# Altium integrated library TI Amplifiers and Linear Special Function Amplifier.IntLib: 708 symbols (part 25 of 47)
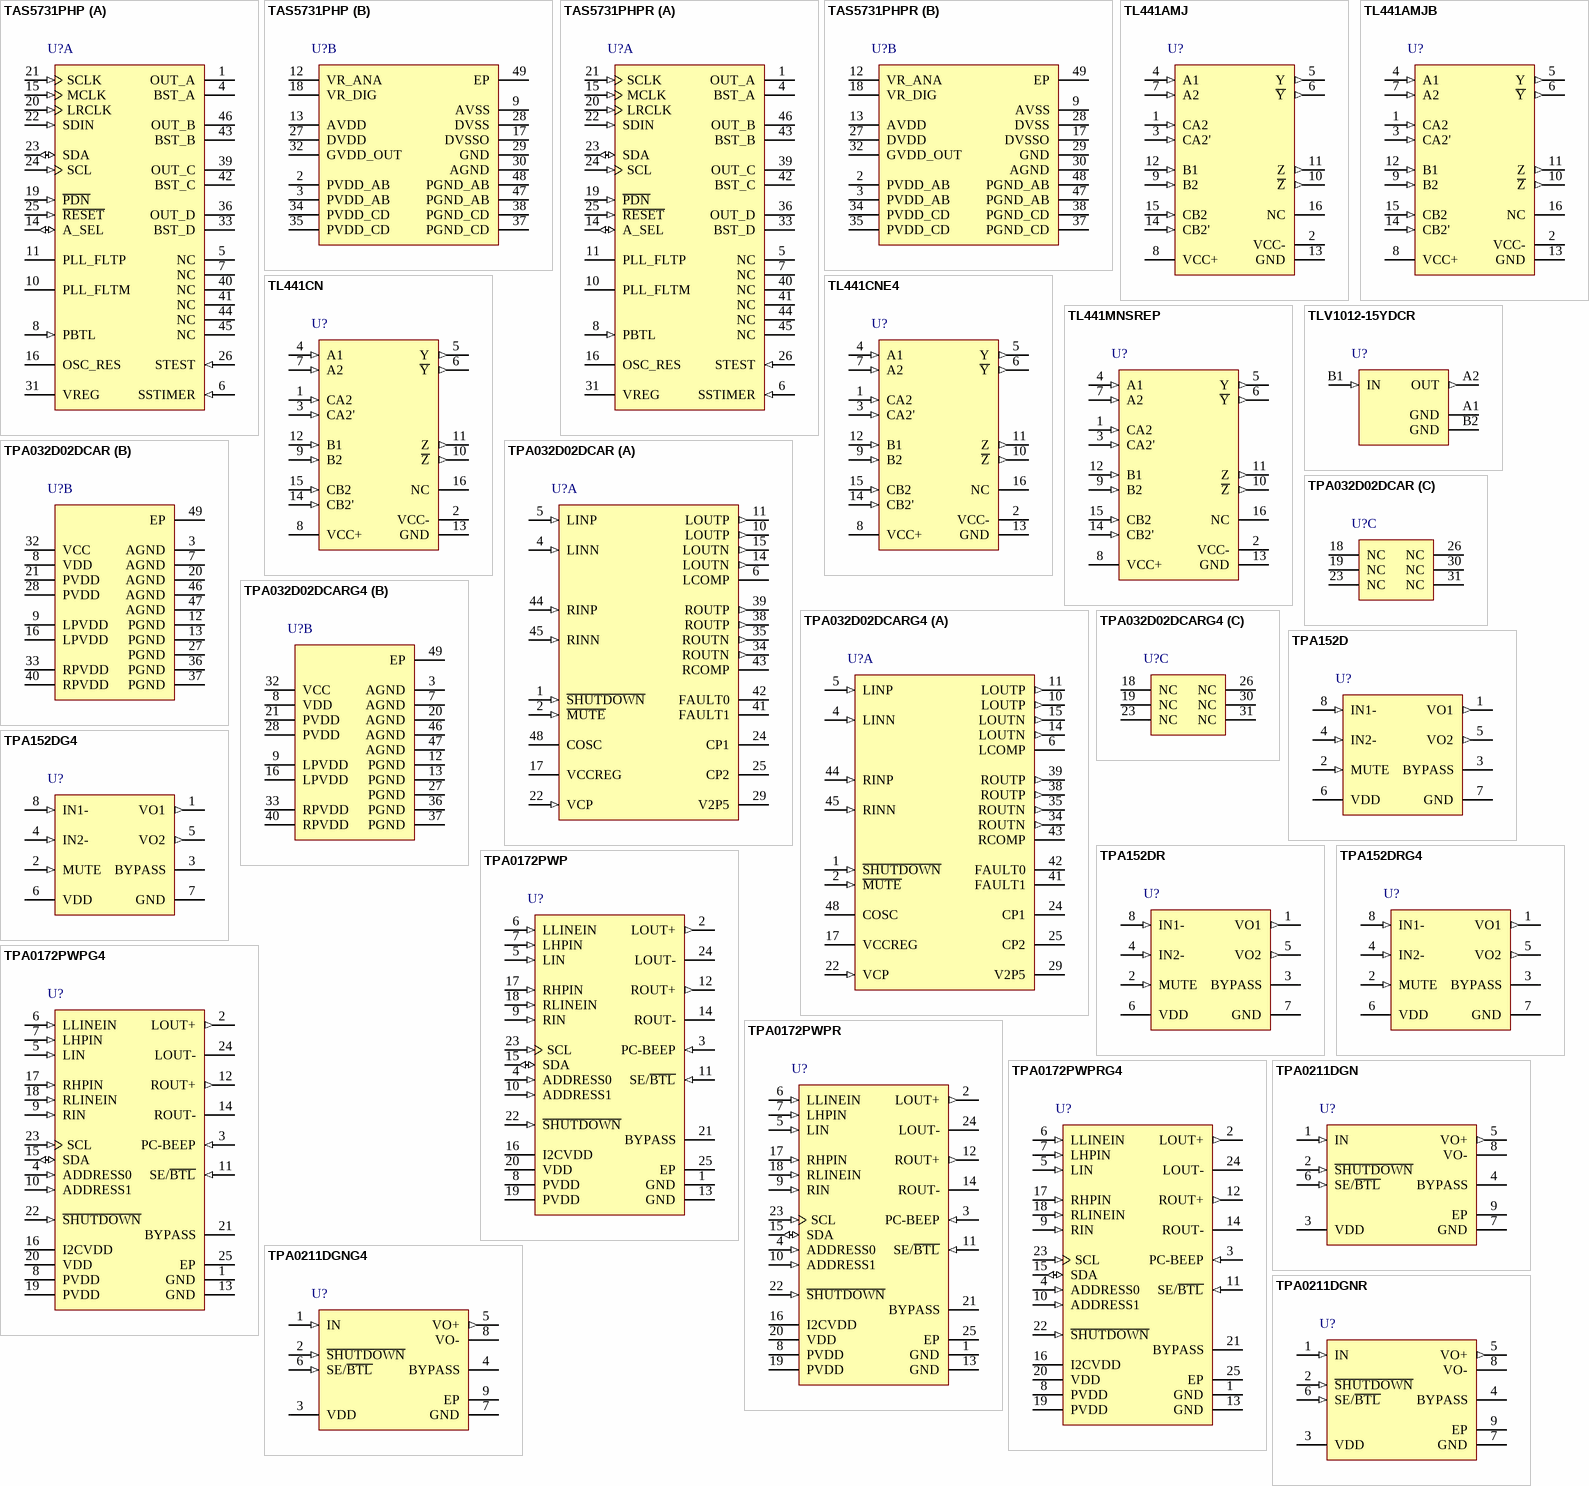
[diagram p63: symbols TAS5731PHP to TPA0211DGNR]

## TPA152DG4
designator U?
Hi-Fi, Stereo Headphone Audio Amplifier, -40 to 85 degC, 8-pin SOIC (D8), Green (RoHS & no Sb/Br); Manufacturer: Texas Instruments; PartNumber: TPA152DG4; Load(Min)(ohms): 32; Output Power(W): 0.075; PSRR(dB): 65; SubFamily: Headphone Amplifier; Supply Max(Max)(Volt): 5.5; Supply Min(Min)(Volt): 4.5; THD(%): 0.2; DatasheetVersion: SLOS210A; PackageVersion: 4040047-3/M, 06/2011; PackageReference: D8; PackageDescription: 8-Pin Plastic Small Outline, Body 4.9 x 3.9 mm, Pitch 1.27 mm; Supplier 1: Digi-Key; Supplier Part Number 1: TPA152DG4-ND; Supplier 2: Mouser; Supplier Part Number 2: 595-TPA152DG4; Eco-Plan: Green (RoHS & no Sb/Br); Headphone Channels: Stereo; Mounting Technology: Surface Mount; Code_JEDEC: MS-012; ComponentLink1Description: Manufacturer URL; ComponentLink1URL: http://www.ti.com/; ComponentLink2Description: Datasheet; ComponentLink2URL: http://www.ti.com/general/docs/lit/getliterature.tsp?genericPartNumber=TPA152&fileType=pdf; ComponentLink3Description: Package Specification; ComponentLink3URL: http://www.ti.com/litv/pdf/msoi002j
footprint TI-D8_N (SOIC, 8-Leads, Body 5x4mm, Pitch 1.27mm, IPC Medium Density)
footprint TI-D8_L (SOIC, 8-Leads, Body 5x4mm, Pitch 1.27mm, IPC High Density)
footprint TI-D8_M (SOIC, 8-Leads, Body 5x4mm, Pitch 1.27mm, IPC Low Density)
pins: 1 VO1 (out) "VO1 is the audio output for channel 1.", 2 MUTE (in) "A logic high puts the device into MUTE mode.", 3 BYPASS "BYPASS is the tap to the voltage divider for internal mid-supply bias. This terminal should be connected to a 0.1-uf to 1-uF capacitor.", 4 IN2- (in) "IN2- is the inverting input for channel 2.", 5 VO2 (out) "VO2 is the audio output for channel 1.", 6 VDD (power) "VDD is the supply voltage terminal.", 7 GND (power) "GND is the ground connection.", 8 IN1- (in) "IN1- is the inverting input for channel 1."

## TPA152DR
designator U?
Hi-Fi, Stereo Headphone Audio Amplifier, -40 to 85 degC, 8-pin SOIC (D8), Green (RoHS & no Sb/Br); Manufacturer: Texas Instruments; PartNumber: TPA152DR; Load(Min)(ohms): 32; Output Power(W): 0.075; PSRR(dB): 65; SubFamily: Headphone Amplifier; Supply Max(Max)(Volt): 5.5; Supply Min(Min)(Volt): 4.5; THD(%): 0.2; DatasheetVersion: SLOS210A; PackageVersion: 4040047-3/M, 06/2011; PackageReference: D8; PackageDescription: 8-Pin Plastic Small Outline, Body 4.9 x 3.9 mm, Pitch 1.27 mm; Supplier 1: Digi-Key; Supplier Part Number 1: 296-1944-2-ND; Supplier 2: Digi-Key; Supplier Part Number 2: 296-1944-1-ND; Supplier 3: Digi-Key; Supplier Part Number 3: 296-1944-6-ND; Supplier 4: Newark; Supplier Part Number 4: 76C9776; Supplier 5: Mouser; Supplier Part Number 5: 595-TPA152DR; Eco-Plan: Green (RoHS & no Sb/Br); Headphone Channels: Stereo; Mounting Technology: Surface Mount; Code_JEDEC: MS-012; ComponentLink1Description: Manufacturer URL; ComponentLink1URL: http://www.ti.com/; ComponentLink2Description: Datasheet; ComponentLink2URL: http://www.ti.com/general/docs/lit/getliterature.tsp?genericPartNumber=TPA152&fileType=pdf; ComponentLink3Description: Package Specification; ComponentLink3URL: http://www.ti.com/litv/pdf/msoi002j
footprint TI-D8_N (SOIC, 8-Leads, Body 5x4mm, Pitch 1.27mm, IPC Medium Density)
footprint TI-D8_L (SOIC, 8-Leads, Body 5x4mm, Pitch 1.27mm, IPC High Density)
footprint TI-D8_M (SOIC, 8-Leads, Body 5x4mm, Pitch 1.27mm, IPC Low Density)
pins: 1 VO1 (out) "VO1 is the audio output for channel 1.", 2 MUTE (in) "A logic high puts the device into MUTE mode.", 3 BYPASS "BYPASS is the tap to the voltage divider for internal mid-supply bias. This terminal should be connected to a 0.1-uf to 1-uF capacitor.", 4 IN2- (in) "IN2- is the inverting input for channel 2.", 5 VO2 (out) "VO2 is the audio output for channel 1.", 6 VDD (power) "VDD is the supply voltage terminal.", 7 GND (power) "GND is the ground connection.", 8 IN1- (in) "IN1- is the inverting input for channel 1."

## TPA152DRG4
designator U?
Hi-Fi, Stereo Headphone Audio Amplifier, -40 to 85 degC, 8-pin SOIC (D8), Green (RoHS & no Sb/Br); Manufacturer: Texas Instruments; PartNumber: TPA152DRG4; Load(Min)(ohms): 32; Output Power(W): 0.075; PSRR(dB): 65; SubFamily: Headphone Amplifier; Supply Max(Max)(Volt): 5.5; Supply Min(Min)(Volt): 4.5; THD(%): 0.2; DatasheetVersion: SLOS210A; PackageVersion: 4040047-3/M, 06/2011; PackageReference: D8; PackageDescription: 8-Pin Plastic Small Outline, Body 4.9 x 3.9 mm, Pitch 1.27 mm; Supplier 1: Digi-Key; Supplier Part Number 1: TPA152DRG4-ND; Supplier 2: Mouser; Supplier Part Number 2: 595-TPA152DRG4; Eco-Plan: Green (RoHS & no Sb/Br); Headphone Channels: Stereo; Mounting Technology: Surface Mount; Code_JEDEC: MS-012; ComponentLink1Description: Manufacturer URL; ComponentLink1URL: http://www.ti.com/; ComponentLink2Description: Datasheet; ComponentLink2URL: http://www.ti.com/general/docs/lit/getliterature.tsp?genericPartNumber=TPA152&fileType=pdf; ComponentLink3Description: Package Specification; ComponentLink3URL: http://www.ti.com/litv/pdf/msoi002j
footprint TI-D8_N (SOIC, 8-Leads, Body 5x4mm, Pitch 1.27mm, IPC Medium Density)
footprint TI-D8_L (SOIC, 8-Leads, Body 5x4mm, Pitch 1.27mm, IPC High Density)
footprint TI-D8_M (SOIC, 8-Leads, Body 5x4mm, Pitch 1.27mm, IPC Low Density)
pins: 1 VO1 (out) "VO1 is the audio output for channel 1.", 2 MUTE (in) "A logic high puts the device into MUTE mode.", 3 BYPASS "BYPASS is the tap to the voltage divider for internal mid-supply bias. This terminal should be connected to a 0.1-uf to 1-uF capacitor.", 4 IN2- (in) "IN2- is the inverting input for channel 2.", 5 VO2 (out) "VO2 is the audio output for channel 1.", 6 VDD (power) "VDD is the supply voltage terminal.", 7 GND (power) "GND is the ground connection.", 8 IN1- (in) "IN1- is the inverting input for channel 1."

## TPA0172PWP
designator U?
Stereo Class-AB Audio Amplifier with Stereo Headphone Drive and I2C Control, -40 to 85 degC, 24-pin SOP (PWP24), Green (RoHS & no Sb/Br); Manufacturer: Texas Instruments; PartNumber: TPA0172PWP; Output Power(W): 2; PSRR(dB): 75; SubFamily: Dynamic Speaker; Supply Max(Max)(Volt): 5.5; Supply Min(Min)(Volt): 4.5; DatasheetVersion: SLOS327C; PackageVersion: 4073225-5/I, 05/2011; PackageReference: PWP24-4420X1950TP; PackageDescription: 24-Pin Plastic Small Outline, Body 4.4 x 7.8 mm, Pitch 0.65 mm; Supplier 1: Digi-Key; Supplier Part Number 1: 296-7000-5-ND; Supplier 2: Mouser; Supplier Part Number 2: 595-TPA0172PWP; Eco-Plan: Green (RoHS & no Sb/Br); Headphone Channels: Stereo; Speaker Amp Type: Class-AB; Speaker Channels: Stereo; Mounting Technology: Surface Mount; Code_JEDEC: MO-153; ComponentLink1Description: Manufacturer URL; ComponentLink1URL: http://www.ti.com/; ComponentLink2Description: Datasheet; ComponentLink2URL: http://www.ti.com/general/docs/lit/getliterature.tsp?genericPartNumber=TPA0172&fileType=pdf; ComponentLink3Description: Package Specification; ComponentLink3URL: http://www.ti.com/lit/ds/symlink/tps65101.pdf
footprint TI-PWP24-4420X1950TP_N (SOP, 24-Leads, Body 7.9x4.5mm, Pitch 0.65mm, Thermal Pad 4.87x2.4mm, IPC Medium Density)
footprint TI-PWP24-4420X1950TP_L (SOP, 24-Leads, Body 7.9x4.5mm, Pitch 0.65mm, Thermal Pad 4.87x2.4mm, IPC High Density)
footprint TI-PWP24-4420X1950TP_M (SOP, 24-Leads, Body 7.9x4.5mm, Pitch 0.65mm, Thermal Pad 4.87x2.4mm, IPC Low Density)
pins: 1 GND (power) "Ground connection for circuitry. Connect to thermal pad", 2 LOUT+ (out) "Left-channel positive output in BTL mode, and positive output in SE mode.", 3 PC-BEEP (in) "The input for PC-BEEP mode which is enabled when a > 1-V (peak-to-peak) square wave is input to this terminal, when PCB ENABLE is held high, or programmed via I2C. If not used, ground this terminal.", 4 ADDRESS0 (in) "Bit 0 of user-setable portion of device’s I2C address.", 5 LIN (in) "Common left input for fully differential input. AC ground for single-ended inputs.", 6 LLINEIN (in) "Left-channel line input, selected when SE/B\T\L\ is held low, or programmed via I2C.", 7 LHPIN (in) "Left-channel headphone input, selected when SE/B\T\L\ is held high, or programmed via I2C.", 8 PVDD (power) "Power supply", 9 RIN (in) "Common right input for fully differential input. AC ground for single-ended inputs.", 10 ADDRESS1 (in) "Bit 1 of user-setable portion of device’s I2C address.", 11 SE/~{BTL} (in) "Input MUX control input. When this terminal is held high, the LHPIN or RHPIN, and the SE output are selected. When this terminal is held low, the LLINEIN or RLINEIN, and the B\T\L\ output are selected. This functionality can (See Datasheet)", 12 ROUT+ (out) "Right-channel positive output in BTL mode, and positive output in SE mode.", 13 GND (power) "Ground connection for circuitry. Connect to thermal pad", 14 ROUT- (hiz) "Right-channel negative output in BTL mode, and high impedance in SE mode.", 15 SDA (io) "Serial data line of the I2C bus. Pullup resistor must comply with the I2C standard: minimum value = 3 kohm, maximum value = 19 kohm. Pull up to I2CVDD", 16 I2CVDD (power) "The voltage on this terminal sets the trip points for the I2C interface. If the system I2C bus is running at 3.3 V, then tie this terminal to 3.3 V. If the system I2C bus is running at 5 V, then tie this terminal to 5 V.", 17 RHPIN (in) "Right-channel headphone input, selected when SE/B\T\L\ is held high, or programmed via I2C.", 18 RLINEIN (in) "Right-channel line input, selected when SE/B\T\L\ is held low, or programmed via I2C.", 19 PVDD (power) "Power supply", 20 VDD (power) "Power supply", 21 BYPASS "Tap to voltage divider for internal midsupply bias generator.", 22 ~{SHUTDOWN} (in) "When held low, this terminal places the device in the shutdown mode, except for the PC-BEEP input and the I2C bus.", 23 SCL (in) "I2C clock line", 24 LOUT- (hiz) "Left-channel negative output in BTL mode, and high impedance in SE mode.", 25 EP (power)

## TPA0172PWPG4
designator U?
Stereo Class-AB Audio Amplifier with Stereo Headphone Drive and I2C Control, -40 to 85 degC, 24-pin SOP (PWP24), Green (RoHS & no Sb/Br); Manufacturer: Texas Instruments; PartNumber: TPA0172PWPG4; Output Power(W): 2; PSRR(dB): 75; SubFamily: Dynamic Speaker; Supply Max(Max)(Volt): 5.5; Supply Min(Min)(Volt): 4.5; DatasheetVersion: SLOS327C; PackageVersion: 4073225-5/I, 05/2011; PackageReference: PWP24-4420X1950TP; PackageDescription: 24-Pin Plastic Small Outline, Body 4.4 x 7.8 mm, Pitch 0.65 mm; Supplier 1: Digi-Key; Supplier Part Number 1: TPA0172PWPG4-ND; Supplier 2: Farnell; Supplier Part Number 2: 1207307; Supplier 3: Newark; Supplier Part Number 3: 62M0660; Supplier 4: Mouser; Supplier Part Number 4: 595-TPA0172PWPG4; Eco-Plan: Green (RoHS & no Sb/Br); Headphone Channels: Stereo; Speaker Amp Type: Class-AB; Speaker Channels: Stereo; Mounting Technology: Surface Mount; Code_JEDEC: MO-153; ComponentLink1Description: Manufacturer URL; ComponentLink1URL: http://www.ti.com/; ComponentLink2Description: Datasheet; ComponentLink2URL: http://www.ti.com/general/docs/lit/getliterature.tsp?genericPartNumber=TPA0172&fileType=pdf; ComponentLink3Description: Package Specification; ComponentLink3URL: http://www.ti.com/lit/ds/symlink/tps65101.pdf
footprint TI-PWP24-4420X1950TP_N (SOP, 24-Leads, Body 7.9x4.5mm, Pitch 0.65mm, Thermal Pad 4.87x2.4mm, IPC Medium Density)
footprint TI-PWP24-4420X1950TP_L (SOP, 24-Leads, Body 7.9x4.5mm, Pitch 0.65mm, Thermal Pad 4.87x2.4mm, IPC High Density)
footprint TI-PWP24-4420X1950TP_M (SOP, 24-Leads, Body 7.9x4.5mm, Pitch 0.65mm, Thermal Pad 4.87x2.4mm, IPC Low Density)
pins: 1 GND (power) "Ground connection for circuitry. Connect to thermal pad", 2 LOUT+ (out) "Left-channel positive output in BTL mode, and positive output in SE mode.", 3 PC-BEEP (in) "The input for PC-BEEP mode which is enabled when a > 1-V (peak-to-peak) square wave is input to this terminal, when PCB ENABLE is held high, or programmed via I2C. If not used, ground this terminal.", 4 ADDRESS0 (in) "Bit 0 of user-setable portion of device’s I2C address.", 5 LIN (in) "Common left input for fully differential input. AC ground for single-ended inputs.", 6 LLINEIN (in) "Left-channel line input, selected when SE/B\T\L\ is held low, or programmed via I2C.", 7 LHPIN (in) "Left-channel headphone input, selected when SE/B\T\L\ is held high, or programmed via I2C.", 8 PVDD (power) "Power supply", 9 RIN (in) "Common right input for fully differential input. AC ground for single-ended inputs.", 10 ADDRESS1 (in) "Bit 1 of user-setable portion of device’s I2C address.", 11 SE/~{BTL} (in) "Input MUX control input. When this terminal is held high, the LHPIN or RHPIN, and the SE output are selected. When this terminal is held low, the LLINEIN or RLINEIN, and the B\T\L\ output are selected. This functionality can (See Datasheet)", 12 ROUT+ (out) "Right-channel positive output in BTL mode, and positive output in SE mode.", 13 GND (power) "Ground connection for circuitry. Connect to thermal pad", 14 ROUT- (hiz) "Right-channel negative output in BTL mode, and high impedance in SE mode.", 15 SDA (io) "Serial data line of the I2C bus. Pullup resistor must comply with the I2C standard: minimum value = 3 kohm, maximum value = 19 kohm. Pull up to I2CVDD", 16 I2CVDD (power) "The voltage on this terminal sets the trip points for the I2C interface. If the system I2C bus is running at 3.3 V, then tie this terminal to 3.3 V. If the system I2C bus is running at 5 V, then tie this terminal to 5 V.", 17 RHPIN (in) "Right-channel headphone input, selected when SE/B\T\L\ is held high, or programmed via I2C.", 18 RLINEIN (in) "Right-channel line input, selected when SE/B\T\L\ is held low, or programmed via I2C.", 19 PVDD (power) "Power supply", 20 VDD (power) "Power supply", 21 BYPASS "Tap to voltage divider for internal midsupply bias generator.", 22 ~{SHUTDOWN} (in) "When held low, this terminal places the device in the shutdown mode, except for the PC-BEEP input and the I2C bus.", 23 SCL (in) "I2C clock line", 24 LOUT- (hiz) "Left-channel negative output in BTL mode, and high impedance in SE mode.", 25 EP (power)

## TPA0172PWPR
designator U?
Stereo Class-AB Audio Amplifier with Stereo Headphone Drive and I2C Control, -40 to 85 degC, 24-pin SOP (PWP24), Green (RoHS & no Sb/Br); Manufacturer: Texas Instruments; PartNumber: TPA0172PWPR; Output Power(W): 2; PSRR(dB): 75; SubFamily: Dynamic Speaker; Supply Max(Max)(Volt): 5.5; Supply Min(Min)(Volt): 4.5; DatasheetVersion: SLOS327C; PackageVersion: 4073225-5/I, 05/2011; PackageReference: PWP24-4420X1950TP; PackageDescription: 24-Pin Plastic Small Outline, Body 4.4 x 7.8 mm, Pitch 0.65 mm; Supplier 1: Digi-Key; Supplier Part Number 1: TPA0172PWPR-ND; Supplier 2: Mouser; Supplier Part Number 2: 595-TPA0172PWPR; Eco-Plan: Green (RoHS & no Sb/Br); Headphone Channels: Stereo; Speaker Amp Type: Class-AB; Speaker Channels: Stereo; Mounting Technology: Surface Mount; Code_JEDEC: MO-153; ComponentLink1Description: Manufacturer URL; ComponentLink1URL: http://www.ti.com/; ComponentLink2Description: Datasheet; ComponentLink2URL: http://www.ti.com/general/docs/lit/getliterature.tsp?genericPartNumber=TPA0172&fileType=pdf; ComponentLink3Description: Package Specification; ComponentLink3URL: http://www.ti.com/lit/ds/symlink/tps65101.pdf
footprint TI-PWP24-4420X1950TP_N (SOP, 24-Leads, Body 7.9x4.5mm, Pitch 0.65mm, Thermal Pad 4.87x2.4mm, IPC Medium Density)
footprint TI-PWP24-4420X1950TP_L (SOP, 24-Leads, Body 7.9x4.5mm, Pitch 0.65mm, Thermal Pad 4.87x2.4mm, IPC High Density)
footprint TI-PWP24-4420X1950TP_M (SOP, 24-Leads, Body 7.9x4.5mm, Pitch 0.65mm, Thermal Pad 4.87x2.4mm, IPC Low Density)
pins: 1 GND (power) "Ground connection for circuitry. Connect to thermal pad", 2 LOUT+ (out) "Left-channel positive output in BTL mode, and positive output in SE mode.", 3 PC-BEEP (in) "The input for PC-BEEP mode which is enabled when a > 1-V (peak-to-peak) square wave is input to this terminal, when PCB ENABLE is held high, or programmed via I2C. If not used, ground this terminal.", 4 ADDRESS0 (in) "Bit 0 of user-setable portion of device’s I2C address.", 5 LIN (in) "Common left input for fully differential input. AC ground for single-ended inputs.", 6 LLINEIN (in) "Left-channel line input, selected when SE/B\T\L\ is held low, or programmed via I2C.", 7 LHPIN (in) "Left-channel headphone input, selected when SE/B\T\L\ is held high, or programmed via I2C.", 8 PVDD (power) "Power supply", 9 RIN (in) "Common right input for fully differential input. AC ground for single-ended inputs.", 10 ADDRESS1 (in) "Bit 1 of user-setable portion of device’s I2C address.", 11 SE/~{BTL} (in) "Input MUX control input. When this terminal is held high, the LHPIN or RHPIN, and the SE output are selected. When this terminal is held low, the LLINEIN or RLINEIN, and the B\T\L\ output are selected. This functionality can (See Datasheet)", 12 ROUT+ (out) "Right-channel positive output in BTL mode, and positive output in SE mode.", 13 GND (power) "Ground connection for circuitry. Connect to thermal pad", 14 ROUT- (hiz) "Right-channel negative output in BTL mode, and high impedance in SE mode.", 15 SDA (io) "Serial data line of the I2C bus. Pullup resistor must comply with the I2C standard: minimum value = 3 kohm, maximum value = 19 kohm. Pull up to I2CVDD", 16 I2CVDD (power) "The voltage on this terminal sets the trip points for the I2C interface. If the system I2C bus is running at 3.3 V, then tie this terminal to 3.3 V. If the system I2C bus is running at 5 V, then tie this terminal to 5 V.", 17 RHPIN (in) "Right-channel headphone input, selected when SE/B\T\L\ is held high, or programmed via I2C.", 18 RLINEIN (in) "Right-channel line input, selected when SE/B\T\L\ is held low, or programmed via I2C.", 19 PVDD (power) "Power supply", 20 VDD (power) "Power supply", 21 BYPASS "Tap to voltage divider for internal midsupply bias generator.", 22 ~{SHUTDOWN} (in) "When held low, this terminal places the device in the shutdown mode, except for the PC-BEEP input and the I2C bus.", 23 SCL (in) "I2C clock line", 24 LOUT- (hiz) "Left-channel negative output in BTL mode, and high impedance in SE mode.", 25 EP (power)

## TPA0172PWPRG4
designator U?
Stereo Class-AB Audio Amplifier with Stereo Headphone Drive and I2C Control, -40 to 85 degC, 24-pin SOP (PWP24), Green (RoHS & no Sb/Br); Manufacturer: Texas Instruments; PartNumber: TPA0172PWPRG4; Output Power(W): 2; PSRR(dB): 75; SubFamily: Dynamic Speaker; Supply Max(Max)(Volt): 5.5; Supply Min(Min)(Volt): 4.5; DatasheetVersion: SLOS327C; PackageVersion: 4073225-5/I, 05/2011; PackageReference: PWP24-4420X1950TP; PackageDescription: 24-Pin Plastic Small Outline, Body 4.4 x 7.8 mm, Pitch 0.65 mm; Supplier 1: Digi-Key; Supplier Part Number 1: TPA0172PWPRG4-ND; Supplier 2: Mouser; Supplier Part Number 2: 595-TPA0172PWPRG4; Eco-Plan: Green (RoHS & no Sb/Br); Headphone Channels: Stereo; Speaker Amp Type: Class-AB; Speaker Channels: Stereo; Mounting Technology: Surface Mount; Code_JEDEC: MO-153; ComponentLink1Description: Manufacturer URL; ComponentLink1URL: http://www.ti.com/; ComponentLink2Description: Datasheet; ComponentLink2URL: http://www.ti.com/general/docs/lit/getliterature.tsp?genericPartNumber=TPA0172&fileType=pdf; ComponentLink3Description: Package Specification; ComponentLink3URL: http://www.ti.com/lit/ds/symlink/tps65101.pdf
footprint TI-PWP24-4420X1950TP_N (SOP, 24-Leads, Body 7.9x4.5mm, Pitch 0.65mm, Thermal Pad 4.87x2.4mm, IPC Medium Density)
footprint TI-PWP24-4420X1950TP_L (SOP, 24-Leads, Body 7.9x4.5mm, Pitch 0.65mm, Thermal Pad 4.87x2.4mm, IPC High Density)
footprint TI-PWP24-4420X1950TP_M (SOP, 24-Leads, Body 7.9x4.5mm, Pitch 0.65mm, Thermal Pad 4.87x2.4mm, IPC Low Density)
pins: 1 GND (power) "Ground connection for circuitry. Connect to thermal pad", 2 LOUT+ (out) "Left-channel positive output in BTL mode, and positive output in SE mode.", 3 PC-BEEP (in) "The input for PC-BEEP mode which is enabled when a > 1-V (peak-to-peak) square wave is input to this terminal, when PCB ENABLE is held high, or programmed via I2C. If not used, ground this terminal.", 4 ADDRESS0 (in) "Bit 0 of user-setable portion of device’s I2C address.", 5 LIN (in) "Common left input for fully differential input. AC ground for single-ended inputs.", 6 LLINEIN (in) "Left-channel line input, selected when SE/B\T\L\ is held low, or programmed via I2C.", 7 LHPIN (in) "Left-channel headphone input, selected when SE/B\T\L\ is held high, or programmed via I2C.", 8 PVDD (power) "Power supply", 9 RIN (in) "Common right input for fully differential input. AC ground for single-ended inputs.", 10 ADDRESS1 (in) "Bit 1 of user-setable portion of device’s I2C address.", 11 SE/~{BTL} (in) "Input MUX control input. When this terminal is held high, the LHPIN or RHPIN, and the SE output are selected. When this terminal is held low, the LLINEIN or RLINEIN, and the B\T\L\ output are selected. This functionality can (See Datasheet)", 12 ROUT+ (out) "Right-channel positive output in BTL mode, and positive output in SE mode.", 13 GND (power) "Ground connection for circuitry. Connect to thermal pad", 14 ROUT- (hiz) "Right-channel negative output in BTL mode, and high impedance in SE mode.", 15 SDA (io) "Serial data line of the I2C bus. Pullup resistor must comply with the I2C standard: minimum value = 3 kohm, maximum value = 19 kohm. Pull up to I2CVDD", 16 I2CVDD (power) "The voltage on this terminal sets the trip points for the I2C interface. If the system I2C bus is running at 3.3 V, then tie this terminal to 3.3 V. If the system I2C bus is running at 5 V, then tie this terminal to 5 V.", 17 RHPIN (in) "Right-channel headphone input, selected when SE/B\T\L\ is held high, or programmed via I2C.", 18 RLINEIN (in) "Right-channel line input, selected when SE/B\T\L\ is held low, or programmed via I2C.", 19 PVDD (power) "Power supply", 20 VDD (power) "Power supply", 21 BYPASS "Tap to voltage divider for internal midsupply bias generator.", 22 ~{SHUTDOWN} (in) "When held low, this terminal places the device in the shutdown mode, except for the PC-BEEP input and the I2C bus.", 23 SCL (in) "I2C clock line", 24 LOUT- (hiz) "Left-channel negative output in BTL mode, and high impedance in SE mode.", 25 EP (power)

## TPA0211DGN
designator U?
Mono Class-AB Audio Amplifier with Mono Headphone Drive, -40 to 85 degC, 8-pin SOP (DGN8), Green (RoHS & no Sb/Br); Manufacturer: Texas Instruments; PartNumber: TPA0211DGN; Output Power(W): 2; PSRR(dB): 58; SubFamily: Dynamic Speaker; Supply Max(Max)(Volt): 5.5; Supply Min(Min)(Volt): 2.5; DatasheetVersion: SLOS275D; PackageVersion: 4073271/F, 05/2011; PackageReference: DGN8-1760X1425TP; PackageDescription: 8-Pin Plastic Small Outline, Body 3 x 3 mm, Pitch 0.65 mm; Supplier 1: Digi-Key; Supplier Part Number 1: 296-2456-5-ND; Supplier 2: Newark; Supplier Part Number 2: 79K4435; Supplier 3: Mouser; Supplier Part Number 3: 595-TPA0211DGN; Eco-Plan: Green (RoHS & no Sb/Br); Headphone Channels: Mono; Speaker Amp Type: Class-AB; Speaker Channels: Mono; Mounting Technology: Surface Mount; Code_JEDEC: MO-187; ComponentLink1Description: Manufacturer URL; ComponentLink1URL: http://www.ti.com/; ComponentLink2Description: Datasheet; ComponentLink2URL: http://www.ti.com/general/docs/lit/getliterature.tsp?genericPartNumber=TPA0211&fileType=pdf; ComponentLink3Description: Package Specification; ComponentLink3URL: http://www.ti.com/litv/pdf/mpds046e
footprint TI-DGN8-1760X1425TP_N (SOP, 8-Leads, Body 3.1x3.1mm, Pitch 0.65mm, Thermal Pad 1.89x1.57mm, IPC Medium Density)
footprint TI-DGN8-1760X1425TP_L (SOP, 8-Leads, Body 3.1x3.1mm, Pitch 0.65mm, Thermal Pad 1.89x1.57mm, IPC High Density)
footprint TI-DGN8-1760X1425TP_M (SOP, 8-Leads, Body 3.1x3.1mm, Pitch 0.65mm, Thermal Pad 1.89x1.57mm, IPC Low Density)
pins: 1 IN (in) "IN is the audio input terminal.", 2 ~{SHUTDOWN} (in) "S\H\U\T\D\O\W\N\ places the entire device in shutdown mode when held low. TTL compatible input.", 3 VDD (power) "VDD is the supply voltage terminal.", 4 BYPASS "BYPASS is the tap to the voltage divider for internal mid-supply bias. This terminal should be connected to a 0.1-uF to 1-uF capacitor.", 5 VO+ (out) "VO+ is the positive output for BTL and SE modes.", 6 SE/~{BTL} (in) "When SE/B\T\L\ is held low, the TPA0211 is in BTL mode. When SE/B\T\L\ is held high, the TPA0211 is in SE mode.", 7 GND (power) "GND is the ground connection.", 8 VO- (hiz) "VO- is the negative output in BTL mode and a high-impedance output in SE mode.", 9 EP

## TPA0211DGNG4
designator U?
Mono Class-AB Audio Amplifier with Mono Headphone Drive, -40 to 85 degC, 8-pin SOP (DGN8), Green (RoHS & no Sb/Br); Manufacturer: Texas Instruments; PartNumber: TPA0211DGNG4; Output Power(W): 2; PSRR(dB): 58; SubFamily: Dynamic Speaker; Supply Max(Max)(Volt): 5.5; Supply Min(Min)(Volt): 2.5; DatasheetVersion: SLOS275D; PackageVersion: 4073271/F, 05/2011; PackageReference: DGN8-1760X1425TP; PackageDescription: 8-Pin Plastic Small Outline, Body 3 x 3 mm, Pitch 0.65 mm; Supplier 1: Digi-Key; Supplier Part Number 1: TPA0211DGNG4-ND; Supplier 2: Farnell; Supplier Part Number 2: 1207308; Supplier 3: Newark; Supplier Part Number 3: 24M8501; Supplier 4: Mouser; Supplier Part Number 4: 595-TPA0211DGNG4; Eco-Plan: Green (RoHS & no Sb/Br); Headphone Channels: Mono; Speaker Amp Type: Class-AB; Speaker Channels: Mono; Mounting Technology: Surface Mount; Code_JEDEC: MO-187; ComponentLink1Description: Manufacturer URL; ComponentLink1URL: http://www.ti.com/; ComponentLink2Description: Datasheet; ComponentLink2URL: http://www.ti.com/general/docs/lit/getliterature.tsp?genericPartNumber=TPA0211&fileType=pdf; ComponentLink3Description: Package Specification; ComponentLink3URL: http://www.ti.com/litv/pdf/mpds046e
footprint TI-DGN8-1760X1425TP_N (SOP, 8-Leads, Body 3.1x3.1mm, Pitch 0.65mm, Thermal Pad 1.89x1.57mm, IPC Medium Density)
footprint TI-DGN8-1760X1425TP_L (SOP, 8-Leads, Body 3.1x3.1mm, Pitch 0.65mm, Thermal Pad 1.89x1.57mm, IPC High Density)
footprint TI-DGN8-1760X1425TP_M (SOP, 8-Leads, Body 3.1x3.1mm, Pitch 0.65mm, Thermal Pad 1.89x1.57mm, IPC Low Density)
pins: 1 IN (in) "IN is the audio input terminal.", 2 ~{SHUTDOWN} (in) "S\H\U\T\D\O\W\N\ places the entire device in shutdown mode when held low. TTL compatible input.", 3 VDD (power) "VDD is the supply voltage terminal.", 4 BYPASS "BYPASS is the tap to the voltage divider for internal mid-supply bias. This terminal should be connected to a 0.1-uF to 1-uF capacitor.", 5 VO+ (out) "VO+ is the positive output for BTL and SE modes.", 6 SE/~{BTL} (in) "When SE/B\T\L\ is held low, the TPA0211 is in BTL mode. When SE/B\T\L\ is held high, the TPA0211 is in SE mode.", 7 GND (power) "GND is the ground connection.", 8 VO- (hiz) "VO- is the negative output in BTL mode and a high-impedance output in SE mode.", 9 EP

## TPA0211DGNR
designator U?
Mono Class-AB Audio Amplifier with Mono Headphone Drive, -40 to 85 degC, 8-pin SOP (DGN8), Green (RoHS & no Sb/Br); Manufacturer: Texas Instruments; PartNumber: TPA0211DGNR; Output Power(W): 2; PSRR(dB): 58; SubFamily: Dynamic Speaker; Supply Max(Max)(Volt): 5.5; Supply Min(Min)(Volt): 2.5; DatasheetVersion: SLOS275D; PackageVersion: 4073271/F, 05/2011; PackageReference: DGN8-1760X1425TP; PackageDescription: 8-Pin Plastic Small Outline, Body 3 x 3 mm, Pitch 0.65 mm; Supplier 1: Digi-Key; Supplier Part Number 1: 296-2456-2-ND; Supplier 2: Digi-Key; Supplier Part Number 2: 296-2456-1-ND; Supplier 3: Digi-Key; Supplier Part Number 3: 296-2456-6-ND; Supplier 4: Newark; Supplier Part Number 4: 86W6300; Supplier 5: Newark; Supplier Part Number 5: 76C9719; Supplier 6: Mouser; Supplier Part Number 6: 595-TPA0211DGNR; Eco-Plan: Green (RoHS & no Sb/Br); Headphone Channels: Mono; Speaker Amp Type: Class-AB; Speaker Channels: Mono; Mounting Technology: Surface Mount; Code_JEDEC: MO-187; ComponentLink1Description: Manufacturer URL; ComponentLink1URL: http://www.ti.com/; ComponentLink2Description: Datasheet; ComponentLink2URL: http://www.ti.com/general/docs/lit/getliterature.tsp?genericPartNumber=TPA0211&fileType=pdf; ComponentLink3Description: Package Specification; ComponentLink3URL: http://www.ti.com/litv/pdf/mpds046e
footprint TI-DGN8-1760X1425TP_N (SOP, 8-Leads, Body 3.1x3.1mm, Pitch 0.65mm, Thermal Pad 1.89x1.57mm, IPC Medium Density)
footprint TI-DGN8-1760X1425TP_L (SOP, 8-Leads, Body 3.1x3.1mm, Pitch 0.65mm, Thermal Pad 1.89x1.57mm, IPC High Density)
footprint TI-DGN8-1760X1425TP_M (SOP, 8-Leads, Body 3.1x3.1mm, Pitch 0.65mm, Thermal Pad 1.89x1.57mm, IPC Low Density)
pins: 1 IN (in) "IN is the audio input terminal.", 2 ~{SHUTDOWN} (in) "S\H\U\T\D\O\W\N\ places the entire device in shutdown mode when held low. TTL compatible input.", 3 VDD (power) "VDD is the supply voltage terminal.", 4 BYPASS "BYPASS is the tap to the voltage divider for internal mid-supply bias. This terminal should be connected to a 0.1-uF to 1-uF capacitor.", 5 VO+ (out) "VO+ is the positive output for BTL and SE modes.", 6 SE/~{BTL} (in) "When SE/B\T\L\ is held low, the TPA0211 is in BTL mode. When SE/B\T\L\ is held high, the TPA0211 is in SE mode.", 7 GND (power) "GND is the ground connection.", 8 VO- (hiz) "VO- is the negative output in BTL mode and a high-impedance output in SE mode.", 9 EP

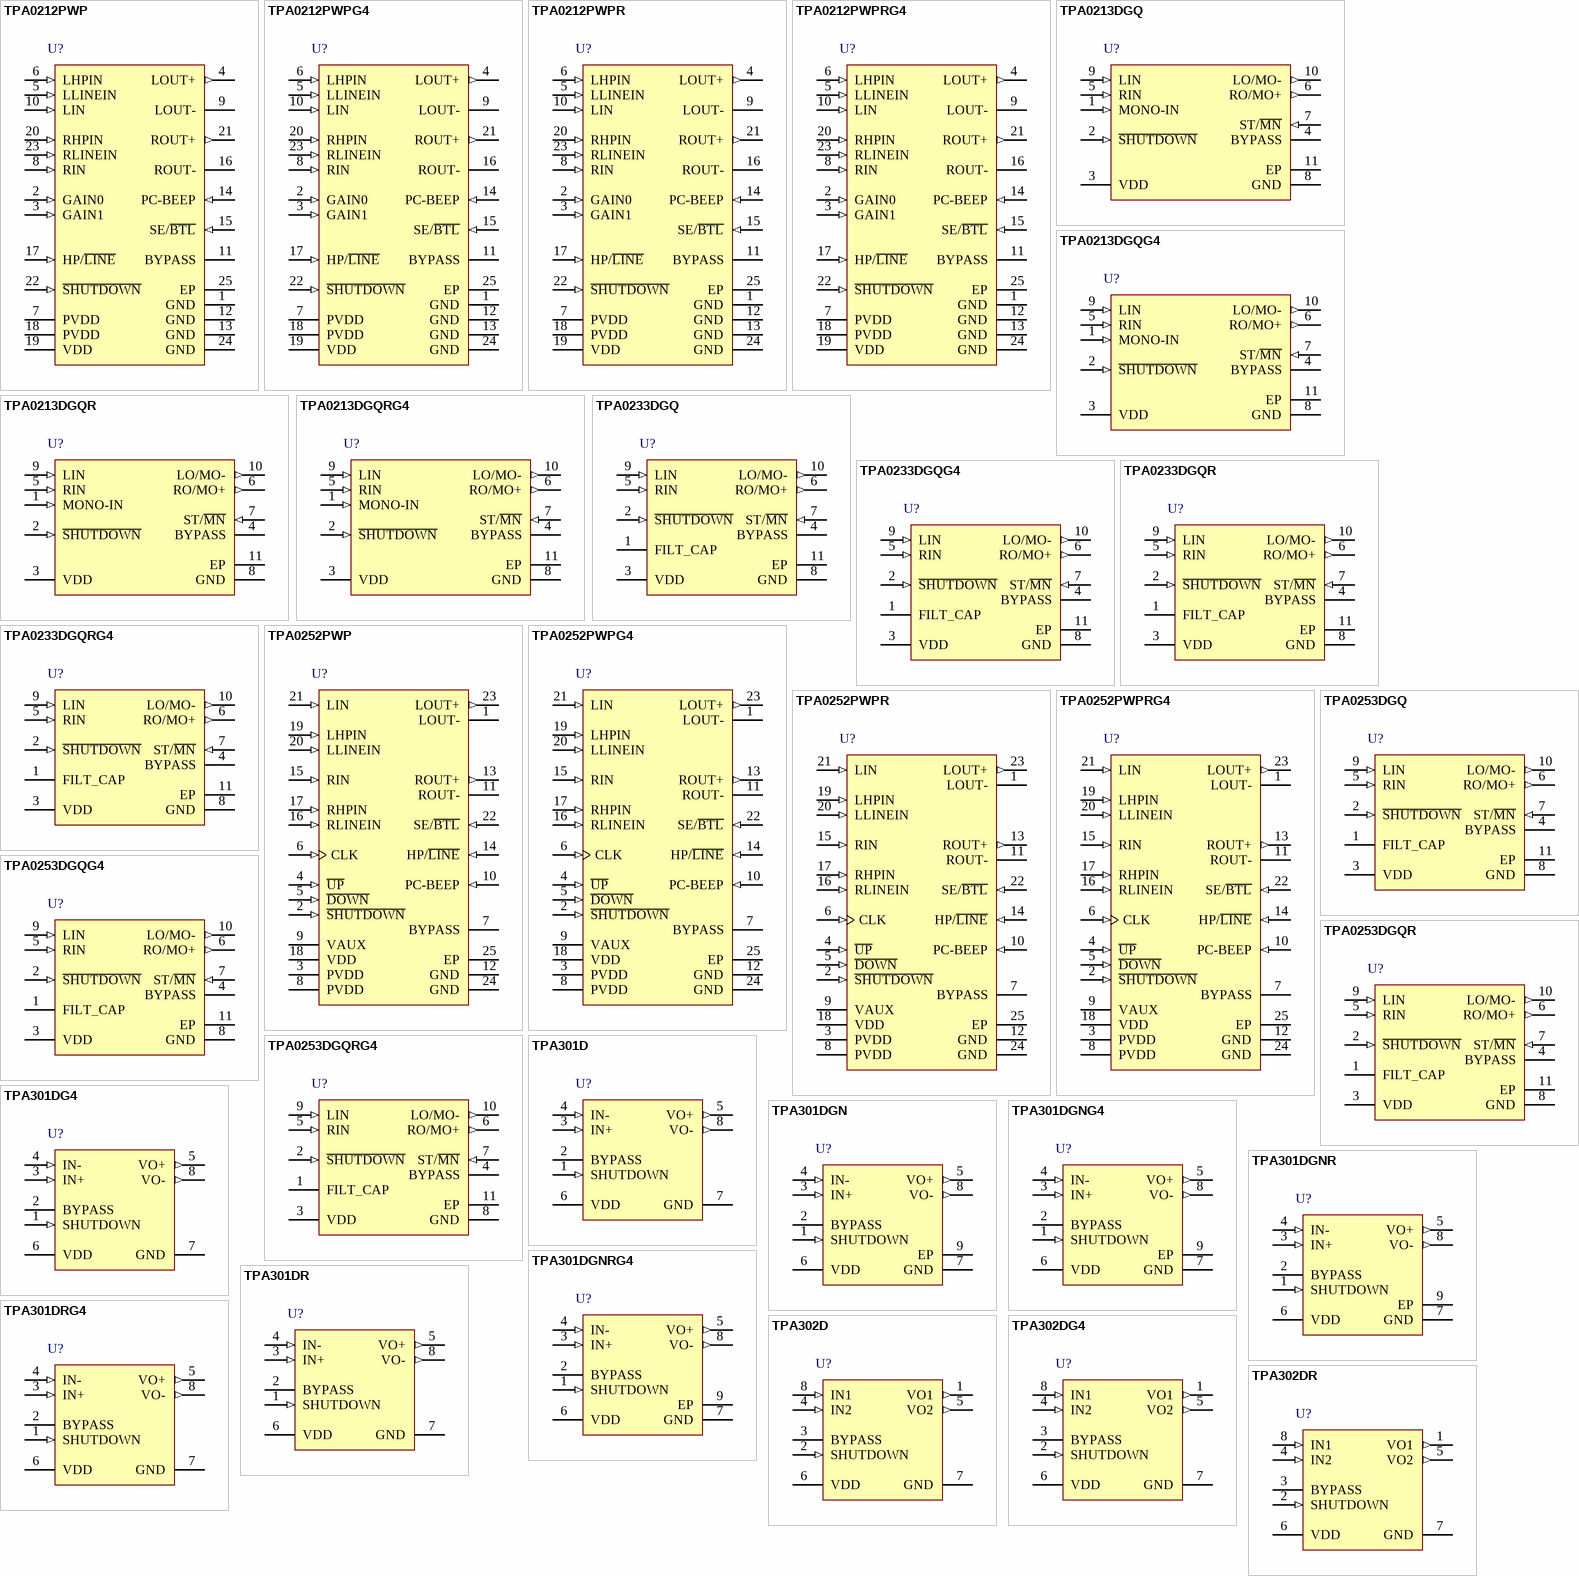
[diagram p24: symbols TPA0212PWP to TPA302DR]

## TPA0212PWP
designator U?
Stereo Class-AB Audio Amplifier with Stereo Headphone Drive and Integrated Gain, -40 to 85 degC, 24-pin SOP (PWP24), Green (RoHS & no Sb/Br); Manufacturer: Texas Instruments; PartNumber: TPA0212PWP; Output Power(W): 2.6; PSRR(dB): 77; SubFamily: Dynamic Speaker; Supply Max(Max)(Volt): 5.5; Supply Min(Min)(Volt): 4.5; DatasheetVersion: SLOS284B; PackageVersion: 4073225-5/I, 05/2011; PackageReference: PWP24-4205X2005TP; PackageDescription: 24-Pin Plastic Small Outline, Body 4.4 x 7.8 mm, Pitch 0.65 mm; Supplier 1: Digi-Key; Supplier Part Number 1: 296-2457-5-ND; Supplier 2: Mouser; Supplier Part Number 2: 595-TPA0212PWP; Eco-Plan: Green (RoHS & no Sb/Br); Headphone Channels: Stereo; Speaker Amp Type: Class-AB; Speaker Channels: Stereo; Mounting Technology: Surface Mount; Code_JEDEC: MO-153; ComponentLink1Description: Manufacturer URL; ComponentLink1URL: http://www.ti.com/; ComponentLink2Description: Datasheet; ComponentLink2URL: http://www.ti.com/general/docs/lit/getliterature.tsp?genericPartNumber=TPA0212&fileType=pdf; ComponentLink3Description: Package Specification; ComponentLink3URL: http://www.ti.com/lit/ds/symlink/tpa0212.pdf
footprint TI-PWP24-4205X2005TP_N (SOP, 24-Leads, Body 7.8x4.4mm, Pitch 0.65mm, Thermal Pad 4.68x2.4mm, IPC Medium Density)
footprint TI-PWP24-4205X2005TP_L (SOP, 24-Leads, Body 7.8x4.4mm, Pitch 0.65mm, Thermal Pad 4.68x2.4mm, IPC High Density)
footprint TI-PWP24-4205X2005TP_M (SOP, 24-Leads, Body 7.8x4.4mm, Pitch 0.65mm, Thermal Pad 4.68x2.4mm, IPC Low Density)
pins: 1 GND (power) "Ground connection for circuitry. Connected to the thermal pad.", 2 GAIN0 (in) "Bit 0 of gain control", 3 GAIN1 (in) "Bit 1 of gain control", 4 LOUT+ (out) "Left-channel positive output in BTL mode and positive output in SE mode", 5 LLINEIN (in) "Left-channel line input, selected when SE/B\T\L\ is held low", 6 LHPIN (in) "Left-channel headphone input, selected when SE/B\T\L\ is held high", 7 PVDD (power) "Power supply for output stage", 8 RIN (in) "Common right input for fully differential input. AC ground for single-ended inputs.", 9 LOUT- (hiz) "Left-channel negative output in BTL mode and high-impedance in SE mode", 10 LIN (in) "Common left input for fully differential input. AC ground for single-ended inputs.", 11 BYPASS "Tap to voltage divider for internal mid-supply bias generator", 12 GND (power) "Ground connection for circuitry. Connected to the thermal pad.", 13 GND (power) "Ground connection for circuitry. Connected to the thermal pad.", 14 PC-BEEP (in) "The input for PC-Beep mode. PC-BEEP is enabled when a > 1.5-V (peak-to-peak) square wave is input to PC-BEEP.", 15 SE/~{BTL} (in) "Hold SE/B\T\L\ low for BTL mode and hold high for SE mode.", 16 ROUT- (hiz) "Right-channel negative output in BTL mode and high-impedance in SE mode", 17 HP/~{LINE} (in) "HP/L\I\N\E\ is the input MUX control input. When the HP/L\I\N\E\ terminal is held high, the headphone inputs (LHPIN or RHPIN [6, 20]) are active. When the HP/L\I\N\E\ terminal is held low, the line inputs (LLINEIN or RLINEIN (See Datasheet)", 18 PVDD (power) "Power supply for output stage", 19 VDD (power) "Analog VDD input supply. This terminal needs to be isolated from PVDD to achieve highest performance", 20 RHPIN (in) "Right-channel headphone input, selected when SE/B\T\L\ is held high", 21 ROUT+ (out) "Right-channel positive output in BTL mode and positive output in SE mode", 22 ~{SHUTDOWN} (in) "Places entire IC in shutdown mode when held low, except PC-BEEP remains active", 23 RLINEIN (in) "Right-channel line input, selected when SE/B\T\L\ is held low", 24 GND (power) "Ground connection for circuitry. Connected to the thermal pad.", 25 EP (power) "Connect to ground. Must be soldered down in all applications to properly secure the device on the PC board."

## TPA0212PWPG4
designator U?
Stereo Class-AB Audio Amplifier with Stereo Headphone Drive and Integrated Gain, -40 to 85 degC, 24-pin SOP (PWP24), Green (RoHS & no Sb/Br); Manufacturer: Texas Instruments; PartNumber: TPA0212PWPG4; Output Power(W): 2.6; PSRR(dB): 77; SubFamily: Dynamic Speaker; Supply Max(Max)(Volt): 5.5; Supply Min(Min)(Volt): 4.5; DatasheetVersion: SLOS284B; PackageVersion: 4073225-5/I, 05/2011; PackageReference: PWP24-4205X2005TP; PackageDescription: 24-Pin Plastic Small Outline, Body 4.4 x 7.8 mm, Pitch 0.65 mm; Supplier 1: Digi-Key; Supplier Part Number 1: TPA0212PWPG4-ND; Supplier 2: Newark; Supplier Part Number 2: 28M7805; Supplier 3: Mouser; Supplier Part Number 3: 595-TPA0212PWPG4; Eco-Plan: Green (RoHS & no Sb/Br); Headphone Channels: Stereo; Speaker Amp Type: Class-AB; Speaker Channels: Stereo; Mounting Technology: Surface Mount; Code_JEDEC: MO-153; ComponentLink1Description: Manufacturer URL; ComponentLink1URL: http://www.ti.com/; ComponentLink2Description: Datasheet; ComponentLink2URL: http://www.ti.com/general/docs/lit/getliterature.tsp?genericPartNumber=TPA0212&fileType=pdf; ComponentLink3Description: Package Specification; ComponentLink3URL: http://www.ti.com/lit/ds/symlink/tpa0212.pdf
footprint TI-PWP24-4205X2005TP_N (SOP, 24-Leads, Body 7.8x4.4mm, Pitch 0.65mm, Thermal Pad 4.68x2.4mm, IPC Medium Density)
footprint TI-PWP24-4205X2005TP_L (SOP, 24-Leads, Body 7.8x4.4mm, Pitch 0.65mm, Thermal Pad 4.68x2.4mm, IPC High Density)
footprint TI-PWP24-4205X2005TP_M (SOP, 24-Leads, Body 7.8x4.4mm, Pitch 0.65mm, Thermal Pad 4.68x2.4mm, IPC Low Density)
pins: 1 GND (power) "Ground connection for circuitry. Connected to the thermal pad.", 2 GAIN0 (in) "Bit 0 of gain control", 3 GAIN1 (in) "Bit 1 of gain control", 4 LOUT+ (out) "Left-channel positive output in BTL mode and positive output in SE mode", 5 LLINEIN (in) "Left-channel line input, selected when SE/B\T\L\ is held low", 6 LHPIN (in) "Left-channel headphone input, selected when SE/B\T\L\ is held high", 7 PVDD (power) "Power supply for output stage", 8 RIN (in) "Common right input for fully differential input. AC ground for single-ended inputs.", 9 LOUT- (hiz) "Left-channel negative output in BTL mode and high-impedance in SE mode", 10 LIN (in) "Common left input for fully differential input. AC ground for single-ended inputs.", 11 BYPASS "Tap to voltage divider for internal mid-supply bias generator", 12 GND (power) "Ground connection for circuitry. Connected to the thermal pad.", 13 GND (power) "Ground connection for circuitry. Connected to the thermal pad.", 14 PC-BEEP (in) "The input for PC-Beep mode. PC-BEEP is enabled when a > 1.5-V (peak-to-peak) square wave is input to PC-BEEP.", 15 SE/~{BTL} (in) "Hold SE/B\T\L\ low for BTL mode and hold high for SE mode.", 16 ROUT- (hiz) "Right-channel negative output in BTL mode and high-impedance in SE mode", 17 HP/~{LINE} (in) "HP/L\I\N\E\ is the input MUX control input. When the HP/L\I\N\E\ terminal is held high, the headphone inputs (LHPIN or RHPIN [6, 20]) are active. When the HP/L\I\N\E\ terminal is held low, the line inputs (LLINEIN or RLINEIN (See Datasheet)", 18 PVDD (power) "Power supply for output stage", 19 VDD (power) "Analog VDD input supply. This terminal needs to be isolated from PVDD to achieve highest performance", 20 RHPIN (in) "Right-channel headphone input, selected when SE/B\T\L\ is held high", 21 ROUT+ (out) "Right-channel positive output in BTL mode and positive output in SE mode", 22 ~{SHUTDOWN} (in) "Places entire IC in shutdown mode when held low, except PC-BEEP remains active", 23 RLINEIN (in) "Right-channel line input, selected when SE/B\T\L\ is held low", 24 GND (power) "Ground connection for circuitry. Connected to the thermal pad.", 25 EP (power) "Connect to ground. Must be soldered down in all applications to properly secure the device on the PC board."

## TPA0212PWPR
designator U?
Stereo Class-AB Audio Amplifier with Stereo Headphone Drive and Integrated Gain, -40 to 85 degC, 24-pin SOP (PWP24), Green (RoHS & no Sb/Br); Manufacturer: Texas Instruments; PartNumber: TPA0212PWPR; Output Power(W): 2.6; PSRR(dB): 77; SubFamily: Dynamic Speaker; Supply Max(Max)(Volt): 5.5; Supply Min(Min)(Volt): 4.5; DatasheetVersion: SLOS284B; PackageVersion: 4073225-5/I, 05/2011; PackageReference: PWP24-4205X2005TP; PackageDescription: 24-Pin Plastic Small Outline, Body 4.4 x 7.8 mm, Pitch 0.65 mm; Supplier 1: Digi-Key; Supplier Part Number 1: 296-2457-2-ND; Supplier 2: Digi-Key; Supplier Part Number 2: 296-2457-1-ND; Supplier 3: Digi-Key; Supplier Part Number 3: 296-2457-6-ND; Supplier 4: Mouser; Supplier Part Number 4: 595-TPA0212PWPR; Eco-Plan: Green (RoHS & no Sb/Br); Headphone Channels: Stereo; Speaker Amp Type: Class-AB; Speaker Channels: Stereo; Mounting Technology: Surface Mount; Code_JEDEC: MO-153; ComponentLink1Description: Manufacturer URL; ComponentLink1URL: http://www.ti.com/; ComponentLink2Description: Datasheet; ComponentLink2URL: http://www.ti.com/general/docs/lit/getliterature.tsp?genericPartNumber=TPA0212&fileType=pdf; ComponentLink3Description: Package Specification; ComponentLink3URL: http://www.ti.com/lit/ds/symlink/tpa0212.pdf
footprint TI-PWP24-4205X2005TP_N (SOP, 24-Leads, Body 7.8x4.4mm, Pitch 0.65mm, Thermal Pad 4.68x2.4mm, IPC Medium Density)
footprint TI-PWP24-4205X2005TP_L (SOP, 24-Leads, Body 7.8x4.4mm, Pitch 0.65mm, Thermal Pad 4.68x2.4mm, IPC High Density)
footprint TI-PWP24-4205X2005TP_M (SOP, 24-Leads, Body 7.8x4.4mm, Pitch 0.65mm, Thermal Pad 4.68x2.4mm, IPC Low Density)
pins: 1 GND (power) "Ground connection for circuitry. Connected to the thermal pad.", 2 GAIN0 (in) "Bit 0 of gain control", 3 GAIN1 (in) "Bit 1 of gain control", 4 LOUT+ (out) "Left-channel positive output in BTL mode and positive output in SE mode", 5 LLINEIN (in) "Left-channel line input, selected when SE/B\T\L\ is held low", 6 LHPIN (in) "Left-channel headphone input, selected when SE/B\T\L\ is held high", 7 PVDD (power) "Power supply for output stage", 8 RIN (in) "Common right input for fully differential input. AC ground for single-ended inputs.", 9 LOUT- (hiz) "Left-channel negative output in BTL mode and high-impedance in SE mode", 10 LIN (in) "Common left input for fully differential input. AC ground for single-ended inputs.", 11 BYPASS "Tap to voltage divider for internal mid-supply bias generator", 12 GND (power) "Ground connection for circuitry. Connected to the thermal pad.", 13 GND (power) "Ground connection for circuitry. Connected to the thermal pad.", 14 PC-BEEP (in) "The input for PC-Beep mode. PC-BEEP is enabled when a > 1.5-V (peak-to-peak) square wave is input to PC-BEEP.", 15 SE/~{BTL} (in) "Hold SE/B\T\L\ low for BTL mode and hold high for SE mode.", 16 ROUT- (hiz) "Right-channel negative output in BTL mode and high-impedance in SE mode", 17 HP/~{LINE} (in) "HP/L\I\N\E\ is the input MUX control input. When the HP/L\I\N\E\ terminal is held high, the headphone inputs (LHPIN or RHPIN [6, 20]) are active. When the HP/L\I\N\E\ terminal is held low, the line inputs (LLINEIN or RLINEIN (See Datasheet)", 18 PVDD (power) "Power supply for output stage", 19 VDD (power) "Analog VDD input supply. This terminal needs to be isolated from PVDD to achieve highest performance", 20 RHPIN (in) "Right-channel headphone input, selected when SE/B\T\L\ is held high", 21 ROUT+ (out) "Right-channel positive output in BTL mode and positive output in SE mode", 22 ~{SHUTDOWN} (in) "Places entire IC in shutdown mode when held low, except PC-BEEP remains active", 23 RLINEIN (in) "Right-channel line input, selected when SE/B\T\L\ is held low", 24 GND (power) "Ground connection for circuitry. Connected to the thermal pad.", 25 EP (power) "Connect to ground. Must be soldered down in all applications to properly secure the device on the PC board."

## TPA0212PWPRG4
designator U?
Stereo Class-AB Audio Amplifier with Stereo Headphone Drive and Integrated Gain, -40 to 85 degC, 24-pin SOP (PWP24), Green (RoHS & no Sb/Br); Manufacturer: Texas Instruments; PartNumber: TPA0212PWPRG4; Output Power(W): 2.6; PSRR(dB): 77; SubFamily: Dynamic Speaker; Supply Max(Max)(Volt): 5.5; Supply Min(Min)(Volt): 4.5; DatasheetVersion: SLOS284B; PackageVersion: 4073225-5/I, 05/2011; PackageReference: PWP24-4205X2005TP; PackageDescription: 24-Pin Plastic Small Outline, Body 4.4 x 7.8 mm, Pitch 0.65 mm; Supplier 1: Digi-Key; Supplier Part Number 1: TPA0212PWPRG4-ND; Supplier 2: Mouser; Supplier Part Number 2: 595-TPA0212PWPRG4; Eco-Plan: Green (RoHS & no Sb/Br); Headphone Channels: Stereo; Speaker Amp Type: Class-AB; Speaker Channels: Stereo; Mounting Technology: Surface Mount; Code_JEDEC: MO-153; ComponentLink1Description: Manufacturer URL; ComponentLink1URL: http://www.ti.com/; ComponentLink2Description: Datasheet; ComponentLink2URL: http://www.ti.com/general/docs/lit/getliterature.tsp?genericPartNumber=TPA0212&fileType=pdf; ComponentLink3Description: Package Specification; ComponentLink3URL: http://www.ti.com/lit/ds/symlink/tpa0212.pdf
footprint TI-PWP24-4205X2005TP_N (SOP, 24-Leads, Body 7.8x4.4mm, Pitch 0.65mm, Thermal Pad 4.68x2.4mm, IPC Medium Density)
footprint TI-PWP24-4205X2005TP_L (SOP, 24-Leads, Body 7.8x4.4mm, Pitch 0.65mm, Thermal Pad 4.68x2.4mm, IPC High Density)
footprint TI-PWP24-4205X2005TP_M (SOP, 24-Leads, Body 7.8x4.4mm, Pitch 0.65mm, Thermal Pad 4.68x2.4mm, IPC Low Density)
pins: 1 GND (power) "Ground connection for circuitry. Connected to the thermal pad.", 2 GAIN0 (in) "Bit 0 of gain control", 3 GAIN1 (in) "Bit 1 of gain control", 4 LOUT+ (out) "Left-channel positive output in BTL mode and positive output in SE mode", 5 LLINEIN (in) "Left-channel line input, selected when SE/B\T\L\ is held low", 6 LHPIN (in) "Left-channel headphone input, selected when SE/B\T\L\ is held high", 7 PVDD (power) "Power supply for output stage", 8 RIN (in) "Common right input for fully differential input. AC ground for single-ended inputs.", 9 LOUT- (hiz) "Left-channel negative output in BTL mode and high-impedance in SE mode", 10 LIN (in) "Common left input for fully differential input. AC ground for single-ended inputs.", 11 BYPASS "Tap to voltage divider for internal mid-supply bias generator", 12 GND (power) "Ground connection for circuitry. Connected to the thermal pad.", 13 GND (power) "Ground connection for circuitry. Connected to the thermal pad.", 14 PC-BEEP (in) "The input for PC-Beep mode. PC-BEEP is enabled when a > 1.5-V (peak-to-peak) square wave is input to PC-BEEP.", 15 SE/~{BTL} (in) "Hold SE/B\T\L\ low for BTL mode and hold high for SE mode.", 16 ROUT- (hiz) "Right-channel negative output in BTL mode and high-impedance in SE mode", 17 HP/~{LINE} (in) "HP/L\I\N\E\ is the input MUX control input. When the HP/L\I\N\E\ terminal is held high, the headphone inputs (LHPIN or RHPIN [6, 20]) are active. When the HP/L\I\N\E\ terminal is held low, the line inputs (LLINEIN or RLINEIN (See Datasheet)", 18 PVDD (power) "Power supply for output stage", 19 VDD (power) "Analog VDD input supply. This terminal needs to be isolated from PVDD to achieve highest performance", 20 RHPIN (in) "Right-channel headphone input, selected when SE/B\T\L\ is held high", 21 ROUT+ (out) "Right-channel positive output in BTL mode and positive output in SE mode", 22 ~{SHUTDOWN} (in) "Places entire IC in shutdown mode when held low, except PC-BEEP remains active", 23 RLINEIN (in) "Right-channel line input, selected when SE/B\T\L\ is held low", 24 GND (power) "Ground connection for circuitry. Connected to the thermal pad.", 25 EP (power) "Connect to ground. Must be soldered down in all applications to properly secure the device on the PC board."

## TPA0213DGQ
designator U?
Mono Class-AB Audio Amplifier with Stereo Headphone Drive--Separate Input, -40 to 85 degC, 10-pin SOP (DGQ10), Green (RoHS & no Sb/Br); Manufacturer: Texas Instruments; PartNumber: TPA0213DGQ; Output Power(W): 2; PSRR(dB): 62; SubFamily: Dynamic Speaker; Supply Max(Max)(Volt): 5.5; Supply Min(Min)(Volt): 2.5; DatasheetVersion: SLOS276D; PackageVersion: 4073273/F, 11/2011; PackageReference: DGQ10-1675X1445TP; PackageDescription: 10-Pin Plastic Small Outline, Body 3 x 3 mm, Pitch 0.5 mm; Supplier 1: Digi-Key; Supplier Part Number 1: 296-34548-5-ND; Supplier 2: Mouser; Supplier Part Number 2: 595-TPA0213DGQ; Eco-Plan: Green (RoHS & no Sb/Br); Headphone Channels: Stereo; Speaker Amp Type: Class-AB; Speaker Channels: Mono; Mounting Technology: Surface Mount; Code_JEDEC: MO-187; ComponentLink1Description: Manufacturer URL; ComponentLink1URL: http://www.ti.com/; ComponentLink2Description: Datasheet; ComponentLink2URL: http://www.ti.com/general/docs/lit/getliterature.tsp?genericPartNumber=TPA0213&fileType=pdf; ComponentLink3Description: Package Specification; ComponentLink3URL: http://www.ti.com/litv/pdf/mpds043e
footprint TI-DGQ10-1675X1445TP_N (SOP, 10-Leads, Body 3.1x3.1mm, Pitch 0.5mm, Thermal Pad 1.88x1.57mm, IPC Medium Density)
footprint TI-DGQ10-1675X1445TP_L (SOP, 10-Leads, Body 3.1x3.1mm, Pitch 0.5mm, Thermal Pad 1.88x1.57mm, IPC High Density)
footprint TI-DGQ10-1675X1445TP_M (SOP, 10-Leads, Body 3.1x3.1mm, Pitch 0.5mm, Thermal Pad 1.88x1.57mm, IPC Low Density)
pins: 1 MONO-IN (in) "Mono input terminal", 2 ~{SHUTDOWN} (in) "S\H\U\T\D\O\W\N\ places the entire device in shutdown mode when held low. TTL compatible input.", 3 VDD (power) "VDD is the supply voltage terminal.", 4 BYPASS "BYPASS is the tap to the voltage divider for internal mid-supply bias. This terminal should be connected to a 0.1-uF to 1-uF capacitor.", 5 RIN (in) "Right-channel input terminal", 6 RO/MO+ (out) "Right-output in SE mode and mono positive output in BTL mode", 7 ST/~{MN} (in) "Selects between stereo and mono mode. When held high, the amplifier is in SE stereo mode, while held low,the amplifier is in BTL mono mode.", 8 GND (power) "Ground terminal", 9 LIN (in) "Left-channel input terminal", 10 LO/MO- (out) "Left-output in SE mode and mono negative output in BTL mode.", 11 EP

## TPA0213DGQG4
designator U?
Mono Class-AB Audio Amplifier with Stereo Headphone Drive--Separate Input, -40 to 85 degC, 10-pin SOP (DGQ10), Green (RoHS & no Sb/Br); Manufacturer: Texas Instruments; PartNumber: TPA0213DGQG4; Output Power(W): 2; PSRR(dB): 62; SubFamily: Dynamic Speaker; Supply Max(Max)(Volt): 5.5; Supply Min(Min)(Volt): 2.5; DatasheetVersion: SLOS276D; PackageVersion: 4073273/F, 11/2011; PackageReference: DGQ10-1675X1445TP; PackageDescription: 10-Pin Plastic Small Outline, Body 3 x 3 mm, Pitch 0.5 mm; Supplier 1: Digi-Key; Supplier Part Number 1: TPA0213DGQG4-ND; Supplier 2: Mouser; Supplier Part Number 2: 595-TPA0213DGQG4; Eco-Plan: Green (RoHS & no Sb/Br); Headphone Channels: Stereo; Speaker Amp Type: Class-AB; Speaker Channels: Mono; Mounting Technology: Surface Mount; Code_JEDEC: MO-187; ComponentLink1Description: Manufacturer URL; ComponentLink1URL: http://www.ti.com/; ComponentLink2Description: Datasheet; ComponentLink2URL: http://www.ti.com/general/docs/lit/getliterature.tsp?genericPartNumber=TPA0213&fileType=pdf; ComponentLink3Description: Package Specification; ComponentLink3URL: http://www.ti.com/litv/pdf/mpds043e
footprint TI-DGQ10-1675X1445TP_N (SOP, 10-Leads, Body 3.1x3.1mm, Pitch 0.5mm, Thermal Pad 1.88x1.57mm, IPC Medium Density)
footprint TI-DGQ10-1675X1445TP_L (SOP, 10-Leads, Body 3.1x3.1mm, Pitch 0.5mm, Thermal Pad 1.88x1.57mm, IPC High Density)
footprint TI-DGQ10-1675X1445TP_M (SOP, 10-Leads, Body 3.1x3.1mm, Pitch 0.5mm, Thermal Pad 1.88x1.57mm, IPC Low Density)
pins: 1 MONO-IN (in) "Mono input terminal", 2 ~{SHUTDOWN} (in) "S\H\U\T\D\O\W\N\ places the entire device in shutdown mode when held low. TTL compatible input.", 3 VDD (power) "VDD is the supply voltage terminal.", 4 BYPASS "BYPASS is the tap to the voltage divider for internal mid-supply bias. This terminal should be connected to a 0.1-uF to 1-uF capacitor.", 5 RIN (in) "Right-channel input terminal", 6 RO/MO+ (out) "Right-output in SE mode and mono positive output in BTL mode", 7 ST/~{MN} (in) "Selects between stereo and mono mode. When held high, the amplifier is in SE stereo mode, while held low,the amplifier is in BTL mono mode.", 8 GND (power) "Ground terminal", 9 LIN (in) "Left-channel input terminal", 10 LO/MO- (out) "Left-output in SE mode and mono negative output in BTL mode.", 11 EP